# Altium footprint library PcbLib1.PcbLib: 1 footprints
Each footprint in its own frame and in the unit in brackets; x right, y up, seen from the top. Pads: shape width x height; smd on the part's side, far side on the other; paste and mask are expansions set on the pad; w line width, h text height; cw(c..) or ccw(c..) is an arc to the next point about the centre after c.
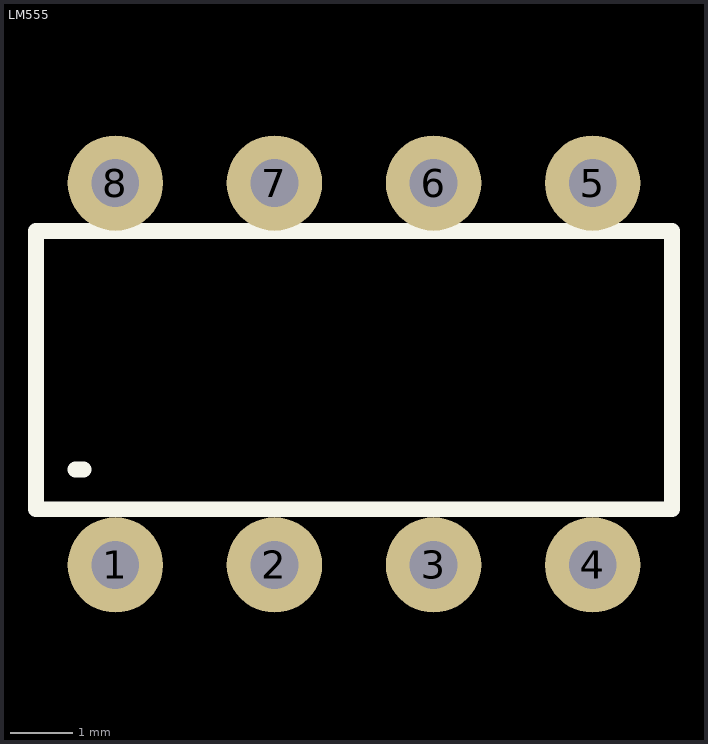
[diagram p0: the footprint, top view; thin cyan lines are the x and y axes]

## LM555 [mil] "LM555 DIP IC"
pads (8):
  round 60 hole 30: 1(-44175,-45835) 2(-44075,-45835) 3(-43975,-45835) 4(-43875,-45835) 5(-43875,-45595) 6(-43975,-45595) 7(-44075,-45595) 8(-44175,-45595)
Top Overlay:
  lines w10: -44200,-45775 -44195,-45775 ; -44225,-45800 -43825,-45800 -43825,-45625 -44225,-45625 -44225,-45800